# EAGLE library part WML-C40AH (library blue-radios)
Bluetooth Module BR-C40# Class1, Class2, and Class3 Bluetooth ver2.0
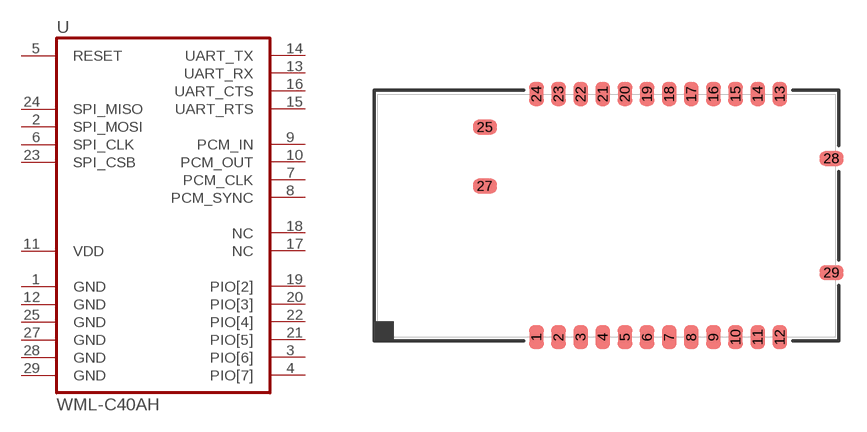
[diagram p0: symbol with the pads of WML-C40AH; footprint WML-C40AH]

Designator prefix U

## WML-C40AH  [WML-C40AH]
1  GND  pwr
2  SPI_MOSI
3  PIO[6]
4  PIO[7]
5  RESET  in
6  SPI_CLK
7  PCM_CLK
8  PCM_SYNC
9  PCM_IN  in
10  PCM_OUT  out
11  VDD  pwr
12  GND  pwr
13  UART_RX  in
14  UART_TX  out
15  UART_RTS  out
16  UART_CTS  in
17  NC  nc
18  NC  nc
19  PIO[2]
20  PIO[3]
21  PIO[5]
22  PIO[4]
23  SPI_CSB
24  SPI_MISO
25  GND  pwr
27  GND  pwr
28  GND  pwr
29  GND  pwr

## Footprint WML-C40AH (pad centres in mm)
BR-C40A (with antenna) Bluetooth Radio Module
smd 0.8 x 1.3: 1 -6.6,-6.6; 2 -5.4,-6.6; 3 -4.2,-6.6; 4 -3,-6.6; 5 -1.8,-6.6; 6 -0.6,-6.6; 7 0.6,-6.6; 8 1.8,-6.6; 9 3,-6.6; 10 4.2,-6.6; 11 5.4,-6.6; 12 6.6,-6.6; 13 6.6,6.6; 14 5.4,6.6; 15 4.2,6.6; 16 3,6.6; 17 1.8,6.6; 18 0.6,6.6; 19 -0.6,6.6; 20 -1.8,6.6; 21 -3,6.6; 22 -4.2,6.6; 23 -5.4,6.6; 24 -6.6,6.6
smd 1.3 x 0.8: 25 -9.4,4.8; 27 -9.4,1.6; 28 9.4,3.1; 29 9.4,-3.1